# Altium footprint library DFN5 SO-8FL 5X6mm.PcbLib: 1 footprints
Each footprint in its own frame and in the unit in brackets; x right, y up, seen from the top. Pads: shape width x height; smd on the part's side, far side on the other; paste and mask are expansions set on the pad; w line width, h text height; cw(c..) or ccw(c..) is an arc to the next point about the centre after c.
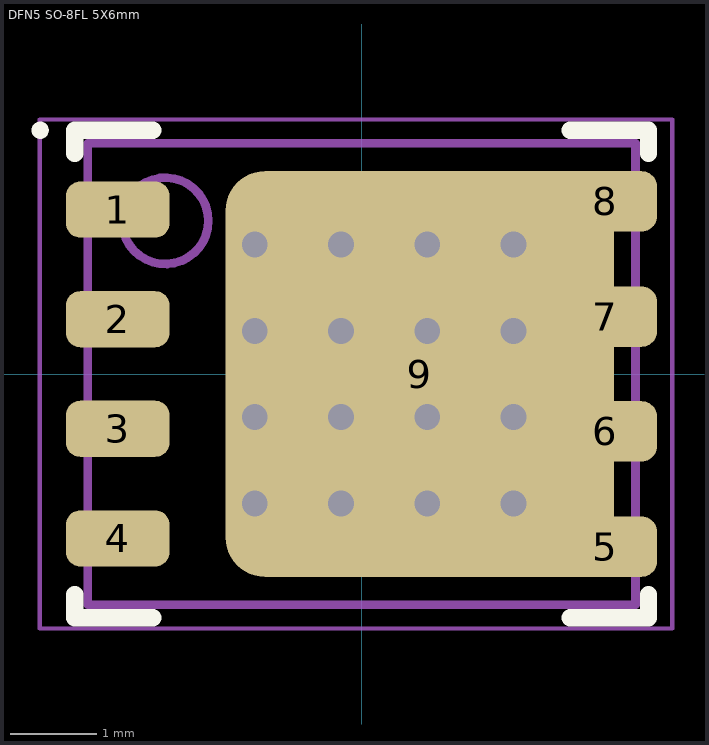
[diagram p0: the footprint, top view; thin cyan lines are the x and y axes]

## DFN5 SO-8FL 5X6mm [mm] "SON, 8-Leads, Body 5,15x6,15mm, Pitch 1,27mm, Thermal Pad 4,30x3,60mm, IPC Medium Density"
height 1.1
pads (9):
  rrect50% 1.2x0.65 smd: 1(-2.825,1.905) 2(-2.825,0.635) 3(-2.825,-0.635) 4(-2.825,-1.905)
  rrect50% 1.2x0.7 smd: 5(2.825,-2) 6(2.825,-0.665) 7(2.825,0.665) 8(2.825,2)
  rrect20% 4.5x4.7 smd paste-3: 9(0.675,0)
via -1.238,1.5 diameter 0.6 hole 0.3
via -0.238,1.5 diameter 0.6 hole 0.3
via 0.762,1.5 diameter 0.6 hole 0.3
via 1.762,1.5 diameter 0.6 hole 0.3
via -1.238,0.5 diameter 0.6 hole 0.3
via -0.238,0.5 diameter 0.6 hole 0.3
via 0.762,0.5 diameter 0.6 hole 0.3
via 1.762,0.5 diameter 0.6 hole 0.3
via -1.238,-0.5 diameter 0.6 hole 0.3
via -0.238,-0.5 diameter 0.6 hole 0.3
via 0.762,-0.5 diameter 0.6 hole 0.3
via 1.762,-0.5 diameter 0.6 hole 0.3
via -1.238,-1.5 diameter 0.6 hole 0.3
via -0.238,-1.5 diameter 0.6 hole 0.3
via 0.762,-1.5 diameter 0.6 hole 0.3
via 1.762,-1.5 diameter 0.6 hole 0.3
Top Overlay:
  circle w0.1: c-3.725,2.825 r0.05
  lines w0.2: -3.325,-2.555 -3.325,-2.825 -2.42,-2.825 ; -3.325,2.555 -3.325,2.825 -2.42,2.825 ; 2.42,-2.825 3.325,-2.825 3.325,-2.555 ; 2.42,2.825 3.325,2.825 3.325,2.555
Top Paste:
  rectangle: -1.438,0.815 -0.438,2.045
  rectangle: -1.438,-0.615 -0.438,0.615
  rectangle: -1.438,-2.045 -0.438,-0.815
  rectangle: -0.238,0.815 0.762,2.045
  rectangle: -0.238,-0.615 0.762,0.615
  rectangle: -0.238,-2.045 0.762,-0.815
  rectangle: 0.962,0.815 1.962,2.045
  rectangle: 0.962,-0.615 1.962,0.615
  rectangle: 0.962,-2.045 1.962,-0.815
Top Assembly:
  circle w0.1: c-2.275,1.775 r0.5
  lines w0.1: -3.175,-2.675 -3.175,2.675 3.175,2.675 3.175,-2.675 -3.175,-2.675
Top Courtyard:
  lines w0.05: -3.73,-2.95 -3.73,2.95 3.6,2.95 3.6,-2.95 -3.73,-2.95
  lines w0.1: -0.238,0 0.762,0 ; 0.262,-0.5 0.262,0.5
3D body "SO-8FL.STEP": height 0.95, standoff -0.05, extent -3.05,-2.6 3.05,2.6